# Altium schematic symbol library ICs - MCUs.SchLib: 4 symbols
Pins are listed as number, name and electrical type; pins without a type are passive.

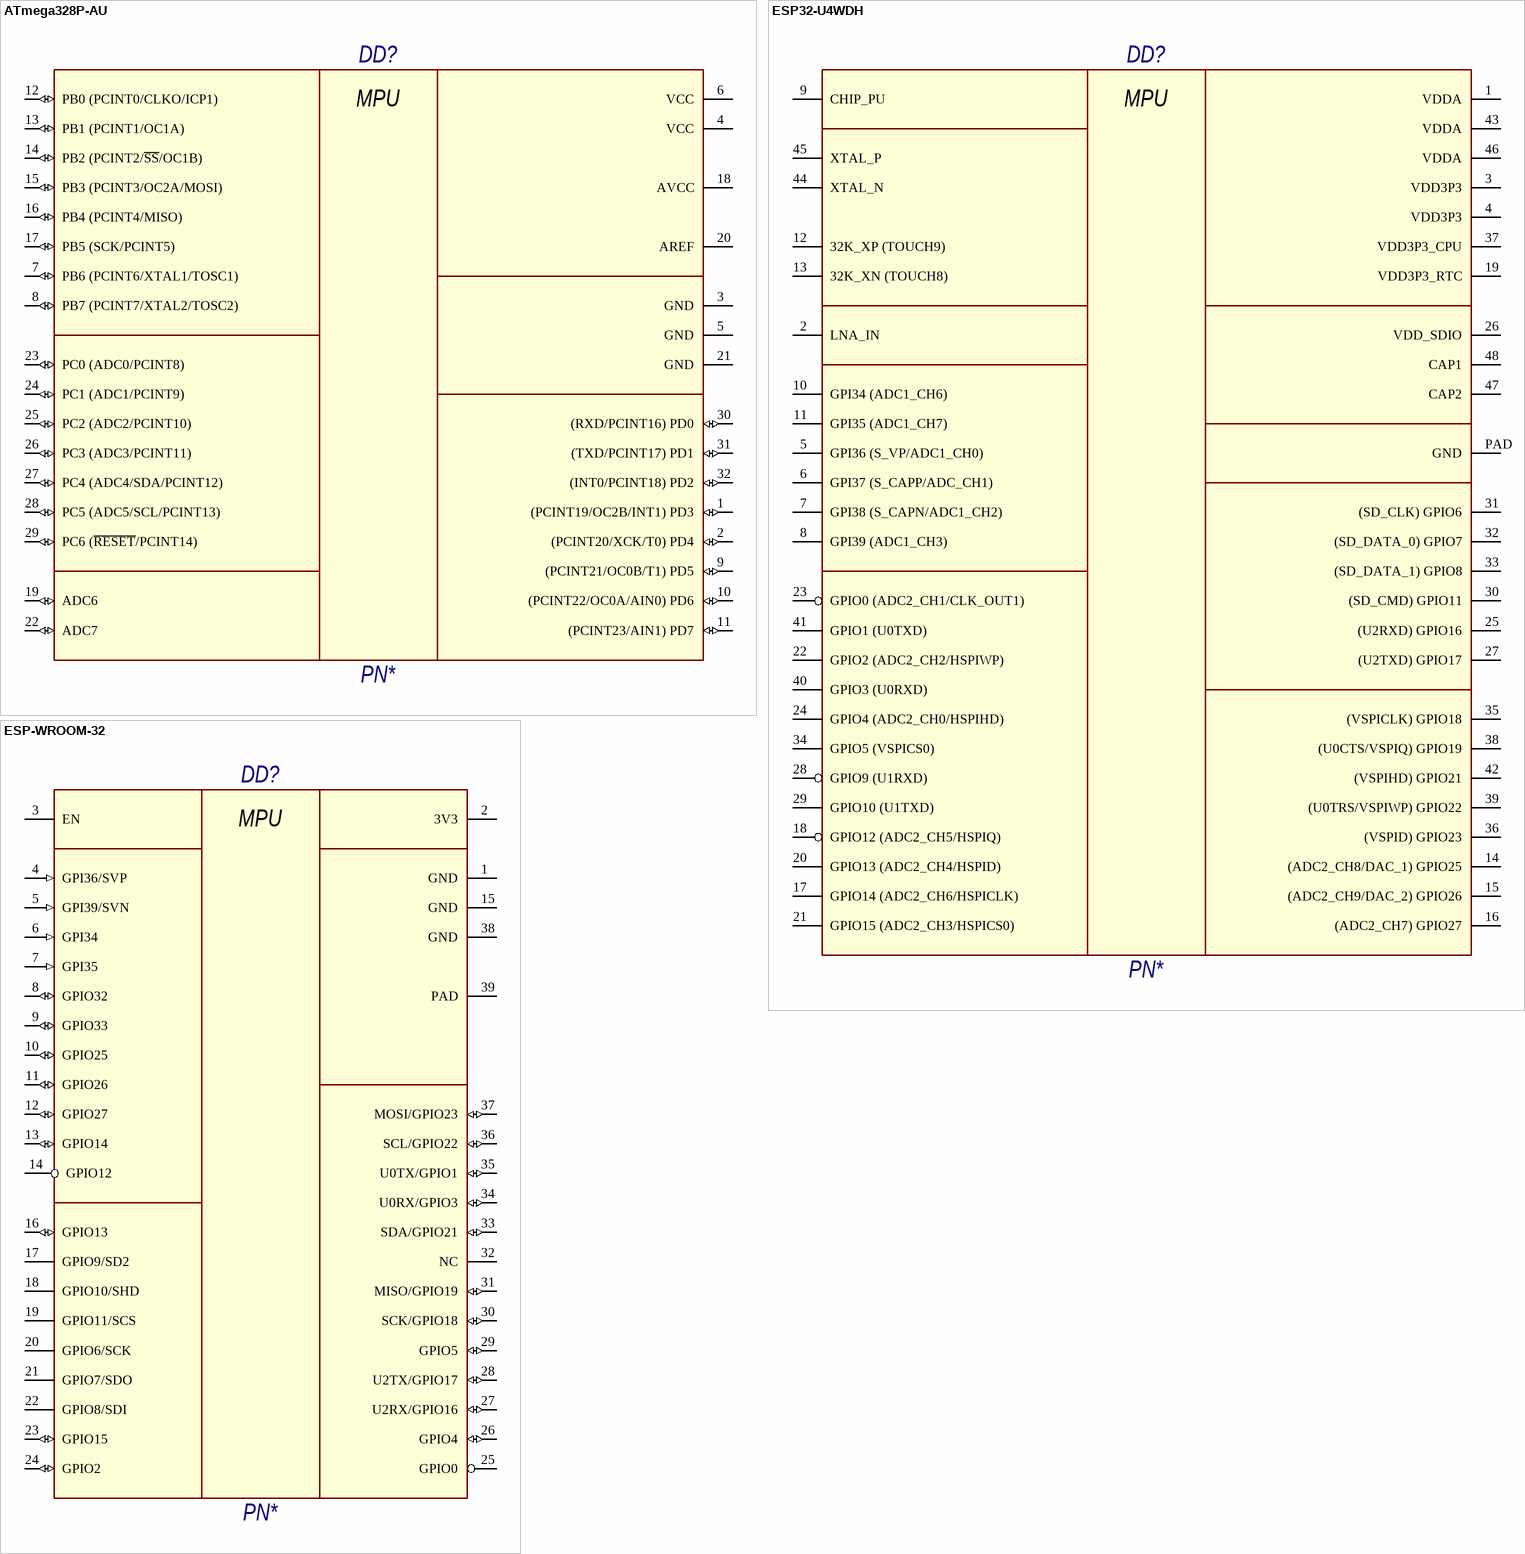
[diagram p0: symbols ATmega328P-AU to ESP-WROOM-32]

## ATmega328P-AU
designator DD?  Part Number: PN*  (hidden comment: *)
Микроконтроллер 8bit AVR
pins: 1 (PCINT19/OC2B/INT1) PD3 (io), 2 (PCINT20/XCK/T0) PD4 (io), 3 GND (power), 4 VCC (power), 5 GND (power), 6 VCC (power), 7 PB6 (PCINT6/XTAL1/TOSC1) (io), 8 PB7 (PCINT7/XTAL2/TOSC2) (io), 9 (PCINT21/OC0B/T1) PD5 (io), 10 (PCINT22/OC0A/AIN0) PD6 (io), 11 (PCINT23/AIN1) PD7 (io), 12 PB0 (PCINT0/CLKO/ICP1) (io), 13 PB1 (PCINT1/OC1A) (io), 14 PB2 (PCINT2/~{SS}/OC1B) (io), 15 PB3 (PCINT3/OC2A/MOSI) (io), 16 PB4 (PCINT4/MISO) (io), 17 PB5 (SCK/PCINT5) (io), 18 AVCC (power), 19 ADC6 (io), 20 AREF, 21 GND (power), 22 ADC7 (io), 23 PC0 (ADC0/PCINT8) (io), 24 PC1 (ADC1/PCINT9) (io), 25 PC2 (ADC2/PCINT10) (io), 26 PC3 (ADC3/PCINT11) (io), 27 PC4 (ADC4/SDA/PCINT12) (io), 28 PC5 (ADC5/SCL/PCINT13) (io), 29 PC6 (~{RESET}/PCINT14) (io), 30 (RXD/PCINT16) PD0 (io), 31 (TXD/PCINT17) PD1 (io), 32 (INT0/PCINT18) PD2 (io)
text: MPU

## ESP32-U4WDH
designator DD?  Part Number: PN*  (hidden comment: *)
Микроконтроллер 32bit ESP
pins: 1 VDDA (power), 2 LNA_IN, 3 VDD3P3 (power), 4 VDD3P3 (power), 5 GPI36 (S_VP/ADC1_CH0), 6 GPI37 (S_CAPP/ADC_CH1), 7 GPI38 (S_CAPN/ADC1_CH2), 8 GPI39 (ADC1_CH3), 9 CHIP_PU, 10 GPI34 (ADC1_CH6), 11 GPI35 (ADC1_CH7), 12 32K_XP (TOUCH9), 13 32K_XN (TOUCH8), 14 (ADC2_CH8/DAC_1) GPIO25, 15 (ADC2_CH9/DAC_2) GPIO26, 16 (ADC2_CH7) GPIO27, 17 GPIO14 (ADC2_CH6/HSPICLK), 18 GPIO12 (ADC2_CH5/HSPIQ), 19 VDD3P3_RTC (power), 20 GPIO13 (ADC2_CH4/HSPID), 21 GPIO15 (ADC2_CH3/HSPICS0), 22 GPIO2 (ADC2_CH2/HSPIWP), 23 GPIO0 (ADC2_CH1/CLK_OUT1), 24 GPIO4 (ADC2_CH0/HSPIHD), 25 (U2RXD) GPIO16, 26 VDD_SDIO, 27 (U2TXD) GPIO17, 28 GPIO9 (U1RXD), 29 GPIO10 (U1TXD), 30 (SD_CMD) GPIO11, 31 (SD_CLK) GPIO6, 32 (SD_DATA_0) GPIO7, 33 (SD_DATA_1) GPIO8, 34 GPIO5 (VSPICS0), 35 (VSPICLK) GPIO18, 36 (VSPID) GPIO23, 37 VDD3P3_CPU (power), 38 (U0CTS/VSPIQ) GPIO19, 39 (U0TRS/VSPIWP) GPIO22, 40 GPIO3 (U0RXD), 41 GPIO1 (U0TXD), 42 (VSPIHD) GPIO21, 43 VDDA (power), 44 XTAL_N, 45 XTAL_P, 46 VDDA (power), 47 CAP2, 48 CAP1, PAD GND (power)
text: MPU

## ESP-WROOM-32
designator DD?  Part Number: PN*  (hidden comment: *)
Микроконтроллер 32bit ESP
pins: 1 GND (power), 2 3V3 (power), 3 EN, 4 GPI36/SVP (in), 5 GPI39/SVN (in), 6 GPI34 (in), 7 GPI35 (in), 8 GPIO32 (io), 9 GPIO33 (io), 10 GPIO25 (io), 11 GPIO26 (io), 12 GPIO27 (io), 13 GPIO14 (io), 14 GPIO12, 15 GND (power), 16 GPIO13 (io), 17 GPIO9/SD2, 18 GPIO10/SHD, 19 GPIO11/SCS, 20 GPIO6/SCK, 21 GPIO7/SDO, 22 GPIO8/SDI, 23 GPIO15 (io), 24 GPIO2 (io), 25 GPIO0, 26 GPIO4 (io), 27 U2RX/GPIO16 (io), 28 U2TX/GPIO17 (io), 29 GPIO5 (io), 30 SCK/GPIO18 (io), 31 MISO/GPIO19 (io), 32 NC, 33 SDA/GPIO21 (io), 34 U0RX/GPIO3 (io), 35 U0TX/GPIO1 (io), 36 SCL/GPIO22 (io), 37 MOSI/GPIO23 (io), 38 GND (power), 39 PAD
text: MPU

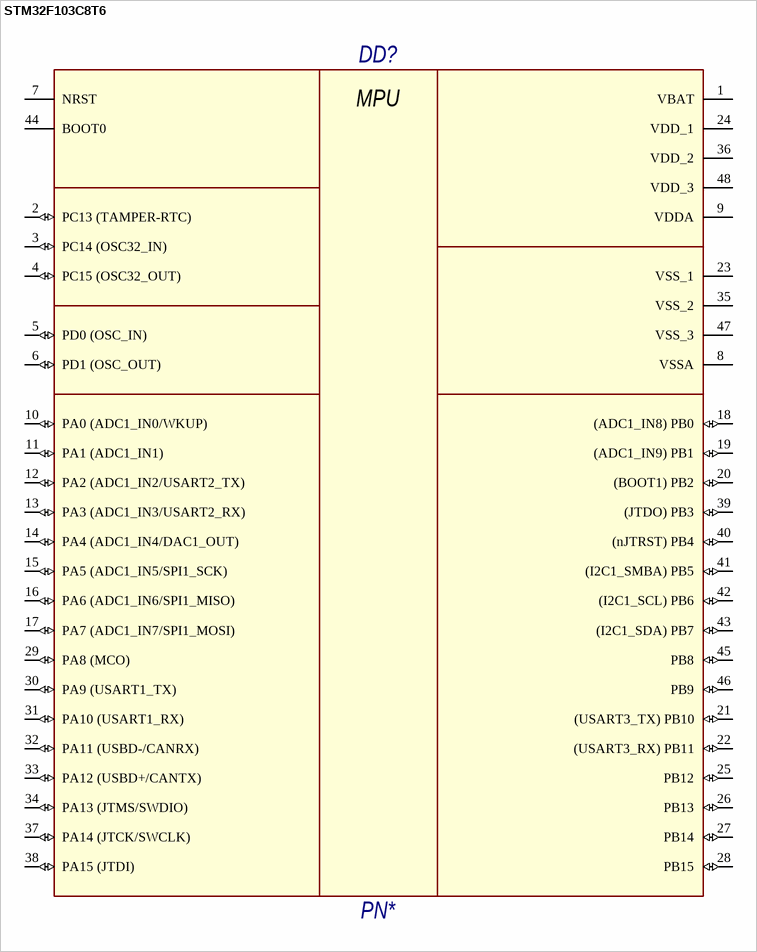
[diagram p1: symbol STM32F103C8T6]

## STM32F103C8T6
designator DD?  Part Number: PN*  (hidden comment: *)
Микроконтроллер 32bit STM
pins: 1 VBAT, 2 PC13 (TAMPER-RTC) (io), 3 PC14 (OSC32_IN) (io), 4 PC15 (OSC32_OUT) (io), 5 PD0 (OSC_IN) (io), 6 PD1 (OSC_OUT) (io), 7 NRST, 8 VSSA (power), 9 VDDA, 10 PA0 (ADC1_IN0/WKUP) (io), 11 PA1 (ADC1_IN1) (io), 12 PA2 (ADC1_IN2/USART2_TX) (io), 13 PA3 (ADC1_IN3/USART2_RX) (io), 14 PA4 (ADC1_IN4/DAC1_OUT) (io), 15 PA5 (ADC1_IN5/SPI1_SCK) (io), 16 PA6 (ADC1_IN6/SPI1_MISO) (io), 17 PA7 (ADC1_IN7/SPI1_MOSI) (io), 18 (ADC1_IN8) PB0 (io), 19 (ADC1_IN9) PB1 (io), 20 (BOOT1) PB2 (io), 21 (USART3_TX) PB10 (io), 22 (USART3_RX) PB11 (io), 23 VSS_1 (power), 24 VDD_1 (power), 25 PB12 (io), 26 PB13 (io), 27 PB14 (io), 28 PB15 (io), 29 PA8 (MCO) (io), 30 PA9 (USART1_TX) (io), 31 PA10 (USART1_RX) (io), 32 PA11 (USBD-/CANRX) (io), 33 PA12 (USBD+/CANTX) (io), 34 PA13 (JTMS/SWDIO) (io), 35 VSS_2 (power), 36 VDD_2 (power), 37 PA14 (JTCK/SWCLK) (io), 38 PA15 (JTDI) (io), 39 (JTDO) PB3 (io), 40 (nJTRST) PB4 (io), 41 (I2C1_SMBA) PB5 (io), 42 (I2C1_SCL) PB6 (io), 43 (I2C1_SDA) PB7 (io), 44 BOOT0, 45 PB8 (io), 46 PB9 (io), 47 VSS_3 (power), 48 VDD_3 (power)
text: MPU